# EAGLE library part TLP250 (library optocoupler)
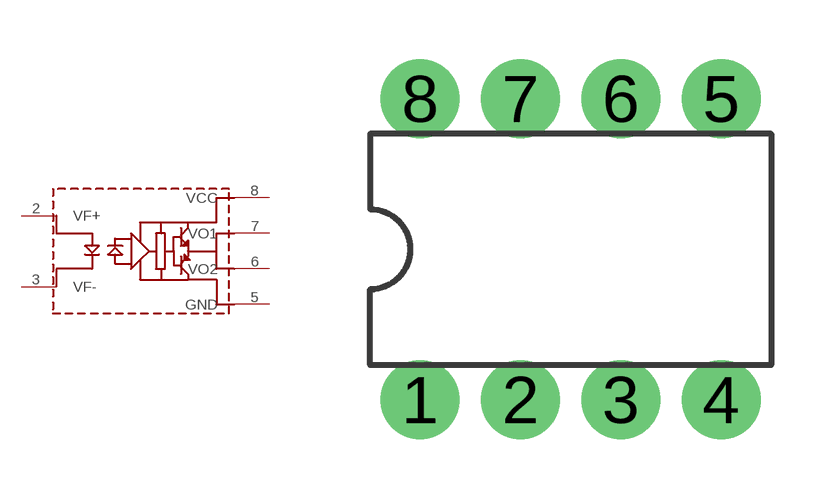
[diagram p45: symbol with the pads of DIL08; footprint DIL08]

Designator prefix -

## TLP250  [DIL08]
2  VF+
3  VF-
5  GND
6  VO2
7  VO1
8  VCC

## Footprint DIL08 (pad centres in mm)
Dual In Line Package
drill 0.813 pad 2 round: 1 -3.81,-3.81; 2 -1.27,-3.81; 3 1.27,-3.81; 4 3.81,-3.81; 5 3.81,3.81; 6 1.27,3.81; 7 -1.27,3.81; 8 -3.81,3.81